# Altium footprint library MOD-PI3302-03-LGIZ.PcbLib: 1 footprints
Each footprint in its own frame and in the unit in brackets; x right, y up, seen from the top. Pads: shape width x height; smd on the part's side, far side on the other; paste and mask are expansions set on the pad; w line width, h text height; cw(c..) or ccw(c..) is an arc to the next point about the centre after c.
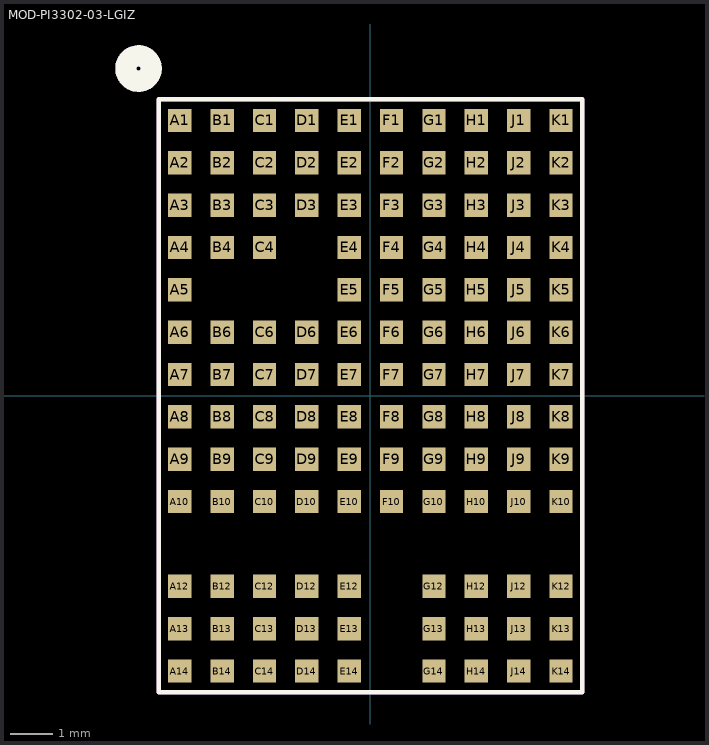
[diagram p0: the footprint, top view; thin cyan lines are the x and y axes]

## MOD-PI3302-03-LGIZ [mm]
height 0.9
pads (123):
  rect 0.55x0.55 smd: A1(-4.5,6.5) A2(-4.5,5.5) A3(-4.5,4.5) A4(-4.5,3.5) A5(-4.5,2.5) A6(-4.5,1.5) A7(-4.5,0.5) A8(-4.5,-0.5) A9(-4.5,-1.5) A10(-4.5,-2.5) A12(-4.5,-4.5) A13(-4.5,-5.5) A14(-4.5,-6.5) B1(-3.5,6.5) B2(-3.5,5.5) B3(-3.5,4.5) B4(-3.5,3.5) B6(-3.5,1.5) B7(-3.5,0.5) B8(-3.5,-0.5) B9(-3.5,-1.5) B10(-3.5,-2.5) B12(-3.5,-4.5) B13(-3.5,-5.5) B14(-3.5,-6.5) C1(-2.5,6.5) C2(-2.5,5.5) C3(-2.5,4.5) C4(-2.5,3.5) C6(-2.5,1.5) C7(-2.5,0.5) C8(-2.5,-0.5) C9(-2.5,-1.5) C10(-2.5,-2.5) C12(-2.5,-4.5) C13(-2.5,-5.5) C14(-2.5,-6.5) D1(-1.5,6.5) D2(-1.5,5.5) D3(-1.5,4.5) D6(-1.5,1.5) D7(-1.5,0.5) D8(-1.5,-0.5) D9(-1.5,-1.5) D10(-1.5,-2.5) D12(-1.5,-4.5) D13(-1.5,-5.5) D14(-1.5,-6.5) E1(-0.5,6.5) E2(-0.5,5.5) E3(-0.5,4.5) E4(-0.5,3.5) E5(-0.5,2.5) E6(-0.5,1.5) E7(-0.5,0.5) E8(-0.5,-0.5) E9(-0.5,-1.5) E10(-0.5,-2.5) E12(-0.5,-4.5) E13(-0.5,-5.5) E14(-0.5,-6.5) F1(0.5,6.5) F2(0.5,5.5) F3(0.5,4.5) F4(0.5,3.5) F5(0.5,2.5) F6(0.5,1.5) F7(0.5,0.5) F8(0.5,-0.5) F9(0.5,-1.5) F10(0.5,-2.5) G1(1.5,6.5) G2(1.5,5.5) G3(1.5,4.5) G4(1.5,3.5) G5(1.5,2.5) G6(1.5,1.5) G7(1.5,0.5) G8(1.5,-0.5) G9(1.5,-1.5) G10(1.5,-2.5) G12(1.5,-4.5) G13(1.5,-5.5) G14(1.5,-6.5) H1(2.5,6.5) H2(2.5,5.5) H3(2.5,4.5) H4(2.5,3.5) H5(2.5,2.5) H6(2.5,1.5) H7(2.5,0.5) H8(2.5,-0.5) H9(2.5,-1.5) H10(2.5,-2.5) H12(2.5,-4.5) H13(2.5,-5.5) H14(2.5,-6.5) J1(3.5,6.5) J2(3.5,5.5) J3(3.5,4.5) J4(3.5,3.5) J5(3.5,2.5) J6(3.5,1.5) J7(3.5,0.5) J8(3.5,-0.5) J9(3.5,-1.5) J10(3.5,-2.5) J12(3.5,-4.5) J13(3.5,-5.5) J14(3.5,-6.5) K1(4.5,6.5) K2(4.5,5.5) K3(4.5,4.5) K4(4.5,3.5) K5(4.5,2.5) K6(4.5,1.5) K7(4.5,0.5) K8(4.5,-0.5) K9(4.5,-1.5) K10(4.5,-2.5) K12(4.5,-4.5) K13(4.5,-5.5) K14(4.5,-6.5)
Top Overlay:
  circle w0.5: c-5.475,7.725 r0.3
  lines w0.1: -5,-7 -5,7 5,7 5,-7 -5,-7
Top Assembly:
  circle w0.5: c-5.475,7.725 r0.3
  lines w0.1: -5,-7 -5,7 5,7 5,-7 -5,-7
  text "'.Designator'" at 0,0 h0.7
3D body "PI3302-03-LGIZ.stp": height 2.72, standoff 0, extent -5,-7 5,7